# Altium schematic symbol library SCH - MCU - STM32 - ST MICROELECTRONICS STM32F401V(B-C)HX UFBGA100.SchLib: 1 symbol
Pins are listed as number, name and electrical type; pins without a type are passive.

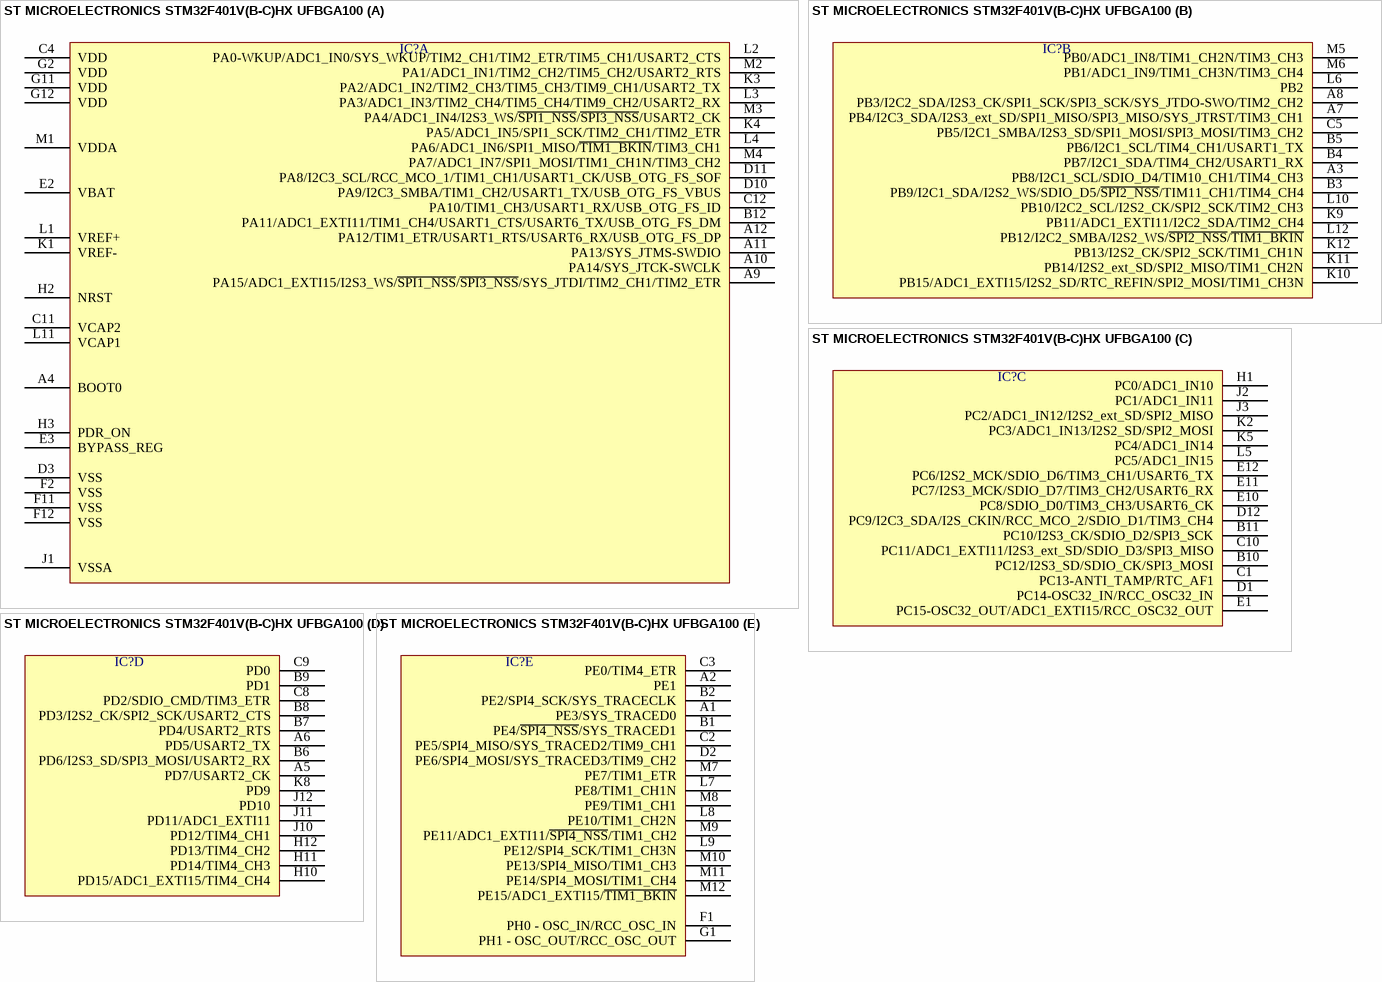
[diagram p0: symbol ST MICROELECTRONICS STM32F401V(B-C)HX UFBGA100]

## ST MICROELECTRONICS STM32F401V(B-C)HX UFBGA100
designator IC?  (value not drawn)
part A pins: A4 BOOT0, A9 PA15/ADC1_EXTI15/I2S3_WS/~{SPI1_NSS}/~{SPI3_NSS}/SYS_JTDI/TIM2_CH1/TIM2_ETR, A10 PA14/SYS_JTCK-SWCLK, A11 PA13/SYS_JTMS-SWDIO, A12 PA12/TIM1_ETR/USART1_RTS/USART6_RX/USB_OTG_FS_DP, B12 PA11/ADC1_EXTI11/TIM1_CH4/USART1_CTS/USART6_TX/USB_OTG_FS_DM, C4 VDD, C11 VCAP2, C12 PA10/TIM1_CH3/USART1_RX/USB_OTG_FS_ID, D3 VSS, D10 PA9/I2C3_SMBA/TIM1_CH2/USART1_TX/USB_OTG_FS_VBUS, D11 PA8/I2C3_SCL/RCC_MCO_1/TIM1_CH1/USART1_CK/USB_OTG_FS_SOF, E2 VBAT, E3 BYPASS_REG, F2 VSS, F11 VSS, F12 VSS, G2 VDD, G11 VDD, G12 VDD, H2 NRST, H3 PDR_ON, J1 VSSA, K1 VREF-, K3 PA2/ADC1_IN2/TIM2_CH3/TIM5_CH3/TIM9_CH1/USART2_TX, K4 PA5/ADC1_IN5/SPI1_SCK/TIM2_CH1/TIM2_ETR, L1 VREF+, L2 PA0-WKUP/ADC1_IN0/SYS_WKUP/TIM2_CH1/TIM2_ETR/TIM5_CH1/USART2_CTS, L3 PA3/ADC1_IN3/TIM2_CH4/TIM5_CH4/TIM9_CH2/USART2_RX, L4 PA6/ADC1_IN6/SPI1_MISO/~{TIM1_BKIN}/TIM3_CH1, L11 VCAP1, M1 VDDA, M2 PA1/ADC1_IN1/TIM2_CH2/TIM5_CH2/USART2_RTS, M3 PA4/ADC1_IN4/I2S3_WS/~{SPI1_NSS}/~{SPI3_NSS}/USART2_CK, M4 PA7/ADC1_IN7/SPI1_MOSI/TIM1_CH1N/TIM3_CH2
part B pins: A3 PB8/I2C1_SCL/SDIO_D4/TIM10_CH1/TIM4_CH3, A7 PB4/I2C3_SDA/I2S3_ext_SD/SPI1_MISO/SPI3_MISO/SYS_JTRST/TIM3_CH1, A8 PB3/I2C2_SDA/I2S3_CK/SPI1_SCK/SPI3_SCK/SYS_JTDO-SWO/TIM2_CH2, B3 PB9/I2C1_SDA/I2S2_WS/SDIO_D5/~{SPI2_NSS}/TIM11_CH1/TIM4_CH4, B4 PB7/I2C1_SDA/TIM4_CH2/USART1_RX, B5 PB6/I2C1_SCL/TIM4_CH1/USART1_TX, C5 PB5/I2C1_SMBA/I2S3_SD/SPI1_MOSI/SPI3_MOSI/TIM3_CH2, K9 PB11/ADC1_EXTI11/I2C2_SDA/TIM2_CH4, K10 PB15/ADC1_EXTI15/I2S2_SD/RTC_REFIN/SPI2_MOSI/TIM1_CH3N, K11 PB14/I2S2_ext_SD/SPI2_MISO/TIM1_CH2N, K12 PB13/I2S2_CK/SPI2_SCK/TIM1_CH1N, L6 PB2, L10 PB10/I2C2_SCL/I2S2_CK/SPI2_SCK/TIM2_CH3, L12 PB12/I2C2_SMBA/I2S2_WS/~{SPI2_NSS}/~{TIM1_BKIN}, M5 PB0/ADC1_IN8/TIM1_CH2N/TIM3_CH3, M6 PB1/ADC1_IN9/TIM1_CH3N/TIM3_CH4
part C pins: B10 PC12/I2S3_SD/SDIO_CK/SPI3_MOSI, B11 PC10/I2S3_CK/SDIO_D2/SPI3_SCK, C1 PC13-ANTI_TAMP/RTC_AF1, C10 PC11/ADC1_EXTI11/I2S3_ext_SD/SDIO_D3/SPI3_MISO, D1 PC14-OSC32_IN/RCC_OSC32_IN, D12 PC9/I2C3_SDA/I2S_CKIN/RCC_MCO_2/SDIO_D1/TIM3_CH4, E1 PC15-OSC32_OUT/ADC1_EXTI15/RCC_OSC32_OUT, E10 PC8/SDIO_D0/TIM3_CH3/USART6_CK, E11 PC7/I2S3_MCK/SDIO_D7/TIM3_CH2/USART6_RX, E12 PC6/I2S2_MCK/SDIO_D6/TIM3_CH1/USART6_TX, H1 PC0/ADC1_IN10, J2 PC1/ADC1_IN11, J3 PC2/ADC1_IN12/I2S2_ext_SD/SPI2_MISO, K2 PC3/ADC1_IN13/I2S2_SD/SPI2_MOSI, K5 PC4/ADC1_IN14, L5 PC5/ADC1_IN15
part D pins: A5 PD7/USART2_CK, A6 PD5/USART2_TX, B6 PD6/I2S3_SD/SPI3_MOSI/USART2_RX, B7 PD4/USART2_RTS, B8 PD3/I2S2_CK/SPI2_SCK/USART2_CTS, B9 PD1, C8 PD2/SDIO_CMD/TIM3_ETR, C9 PD0, H10 PD15/ADC1_EXTI15/TIM4_CH4, H11 PD14/TIM4_CH3, H12 PD13/TIM4_CH2, J10 PD12/TIM4_CH1, J11 PD11/ADC1_EXTI11, J12 PD10, K8 PD9
part E pins: A1 PE3/SYS_TRACED0, A2 PE1, B1 PE4/~{SPI4_NSS}/SYS_TRACED1, B2 PE2/SPI4_SCK/SYS_TRACECLK, C2 PE5/SPI4_MISO/SYS_TRACED2/TIM9_CH1, C3 PE0/TIM4_ETR, D2 PE6/SPI4_MOSI/SYS_TRACED3/TIM9_CH2, F1 PH0 - OSC_IN/RCC_OSC_IN, G1 PH1 - OSC_OUT/RCC_OSC_OUT, L7 PE8/TIM1_CH1N, L8 PE10/TIM1_CH2N, L9 PE12/SPI4_SCK/TIM1_CH3N, M7 PE7/TIM1_ETR, M8 PE9/TIM1_CH1, M9 PE11/ADC1_EXTI11/~{SPI4_NSS}/TIM1_CH2, M10 PE13/SPI4_MISO/TIM1_CH3, M11 PE14/SPI4_MOSI/TIM1_CH4, M12 PE15/ADC1_EXTI15/~{TIM1_BKIN}